# Altium integrated library 5134TR.IntLib: 2 symbols
Pins are listed as number, name and electrical type; pins without a type are passive.

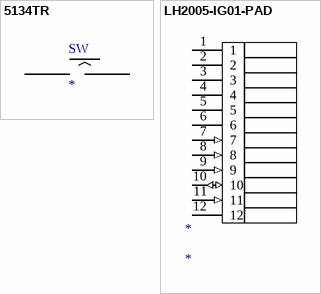
[diagram p0: symbols 5134TR to LH2005-IG01-PAD]

## 5134TR
designator SW
4-Leg Metal Dome, Dia - 8.40mm, Mounting Height - 0.50mm, 12mA @ 24V; MFR: Keystone Electronics; Part Number: 5134TR; Supplier 1: Digi-Key; Mounting Diameter: 8.40mm; Mounting Height: 0.50mm; Maximum Current: 12mA; Maximum Voltage: 24V; Supplier Part Number 1: 36-5134CT-ND
footprint 8.40MM-METAL-DOME; pin to pad S1>S1A+S1B+S1C+S1D
pins: S1, S2

## LH2005-IG01-PAD
designator *
footprint CONN_FPC_12P
pins: 1 (power), 2 (power), 3 (power), 4 (power), 5 (power), 6 (power), 7 (in), 8 (in), 9 (in), 10 (io), 11 (in), 12 (power)